# EAGLE library part L86 (library SobieskiSat2)
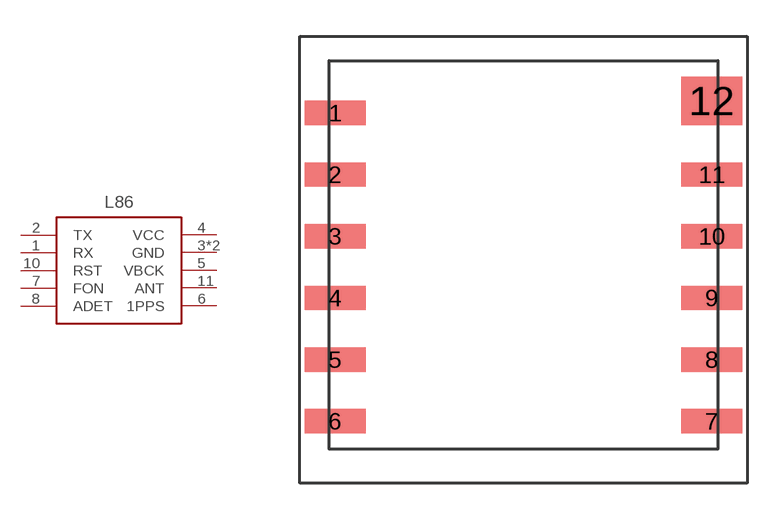
[diagram p19: symbol with the pads of L86; footprint L86]

Designator prefix -

## L86  [L86]
1  RX
2  TX
3  GND
4  VCC
5  VBCK
6  1PPS
7  FON
8  ADET
10  RST
11  ANT
12  GND

## Footprint L86 (pad centres in mm)
smd 2.5 x 1: 1 -7.75,5.85; 2 -7.75,3.31; 3 -7.75,0.77; 4 -7.75,-1.77; 5 -7.75,-4.31; 6 -7.75,-6.85; 7 7.75,-6.85; 8 7.75,-4.31; 9 7.75,-1.77; 10 7.75,0.77; 11 7.75,3.31
smd 2.5 x 2: 12 7.75,6.35